# EAGLE library part TLC59116IPWR (library IC_Power-Management)
IC LED DRIVER LINEAR DIM 28TSSOPTLC59116 16-Channel FM+ I 2C-Bus Constant-Current LED Sink Driver Datasheet <http://www.ti.com/lit/ds/symlink/tlc59116.pdf>
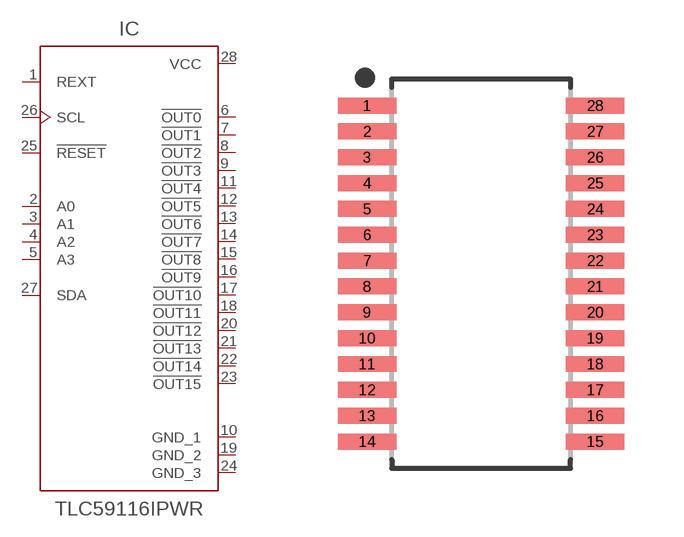
[diagram p10: symbol with the pads of SOP65P640X120-28; footprint SOP65P640X120-28]

Designator prefix IC

## TLC59116IPWRTSSOP (CATEGORY: IC_Power-Management; MANUFACTURER: TI; MPN: TLC59116IPWR; OPERATING_TEMP: -40 to +85 °C; PART_STATUS: Active; ROHS_COMPLIANT: RoHS3 Compliant; SUB-CATEGORY: Driver; THERMALLOSS: 0.8W; VALUE: DIODE)  [SOP65P640X120-28]
1  REXT  in
2  A0  in
3  A1  in
4  A2  in
5  A3  in
6  !OUT0  out
7  !OUT1  out
8  !OUT2  out
9  !OUT3  out
10  GND_1  pwr
11  !OUT4  out
12  !OUT5  out
13  !OUT6  out
14  !OUT7  out
15  !OUT8  out
16  !OUT9  out
17  !OUT10  out
18  !OUT11  out
19  GND_2  pwr
20  !OUT12  out
21  !OUT13  out
22  !OUT14  out
23  !OUT15  out
24  GND_3  pwr
25  !RESET  in
26  SCL  in
27  SDA
28  VCC  pwr

## Footprint SOP65P640X120-28 (pad centres in mm)
28-SOP, 0.65 mm pitch, 6.40 mm span, 9.70 X 4.40 X 1.20 mm body 28-pin SOP package with 0.65 mm pitch, 6.40 mm span with body size 9.70 X 4.40 X 1.20 mm
smd 1.469 x 0.402: 1 -2.871,4.225; 2 -2.871,3.575; 3 -2.871,2.925; 4 -2.871,2.275; 5 -2.871,1.625; 6 -2.871,0.975; 7 -2.871,0.325; 8 -2.871,-0.325; 9 -2.871,-0.975; 10 -2.871,-1.625; 11 -2.871,-2.275; 12 -2.871,-2.925; 13 -2.871,-3.575; 14 -2.871,-4.225; 15 2.871,-4.225; 16 2.871,-3.575; 17 2.871,-2.925; 18 2.871,-2.275; 19 2.871,-1.625; 20 2.871,-0.975; 21 2.871,-0.325; 22 2.871,0.325; 23 2.871,0.975; 24 2.871,1.625; 25 2.871,2.275; 26 2.871,2.925; 27 2.871,3.575; 28 2.871,4.225